# Altium schematic symbol library PIC(20)pin.SchLib: 1 symbol
Pins are listed as number, name and electrical type; pins without a type are passive.

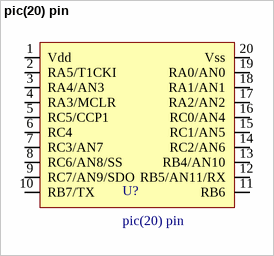
[diagram p0: symbol pic(20) pin]

## pic(20) pin
designator U?
footprint PIC(20)piN
pins: 1 Vdd, 2 RA5/T1CKI, 3 RA4/AN3, 4 RA3/MCLR, 5 RC5/CCP1, 6 RC4, 7 RC3/AN7, 8 RC6/AN8/SS, 9 RC7/AN9/SDO, 10 RB7/TX, 11 RB6, 12 RB5/AN11/RX, 13 RB4/AN10, 14 RC2/AN6, 15 RC1/AN5, 16 RC0/AN4, 17 RA2/AN2, 18 RA1/AN1, 19 RA0/AN0, 20 Vss